# EAGLE library part ISL9203 (library minibox-parts)
The ISL9203R5220 is an integrated single-cell Li-ion or Li-polymer battery charger capable of operating with an input voltage as low as 2.4V. This charger is designed to work with various types of AC adapters. Datasheet: Link <http://www.farnell.com/datasheets/71476.pdf> Intersil Layout Guidelines Link <http://www.intersil.com/data/tb/TB389.pdf>
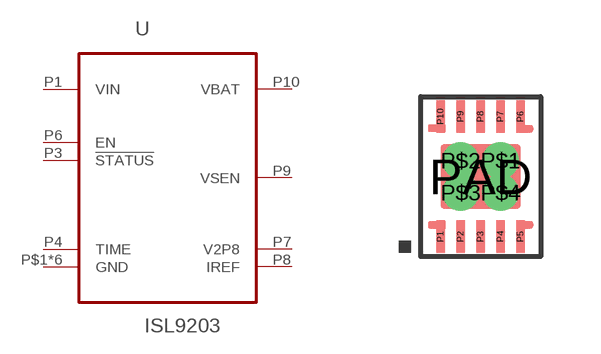
[diagram p0: symbol with the pads of INTERSIL_DFN_3X3; footprint INTERSIL_DFN_3X3]

Designator prefix U

## ISL9203 (FARNELL: 1361031)  [INTERSIL_DFN_3X3]
P1  VIN  pwr
P3  !STATUS!  out
P4  TIME  in
P5  GND  pas
P6  EN  in
P7  V2P8  out
P8  IREF  in
P9  VSEN  in
P10  VBAT  out
P$1  GND  pas
P$2  GND  pas
P$3  GND  pas
P$4  GND  pas
PAD  GND  pas

## Footprint INTERSIL_DFN_3X3 (pad centres in mm)
smd 0.23 x 0.8: P1 -1,-1.5; P2 -0.5,-1.5; P3 0,-1.5; P4 0.5,-1.5; P5 1,-1.5; P6 1,1.5; P7 0.5,1.5; P8 0,1.5; P9 -0.5,1.5; P10 -1,1.5
drill 0.4 pad 0.813: P$1 0.5,0.4; P$2 -0.5,0.4; P$3 -0.5,-0.4; P$4 0.5,-0.4
smd 2 x 1.6: PAD 0,0